# Altium footprint library libSiemens.PcbLib: 4 footprints
Each footprint in its own frame and in the unit in brackets; x right, y up, seen from the top. Pads: shape width x height; smd on the part's side, far side on the other; paste and mask are expansions set on the pad; w line width, h text height; cw(c..) or ccw(c..) is an arc to the next point about the centre after c.
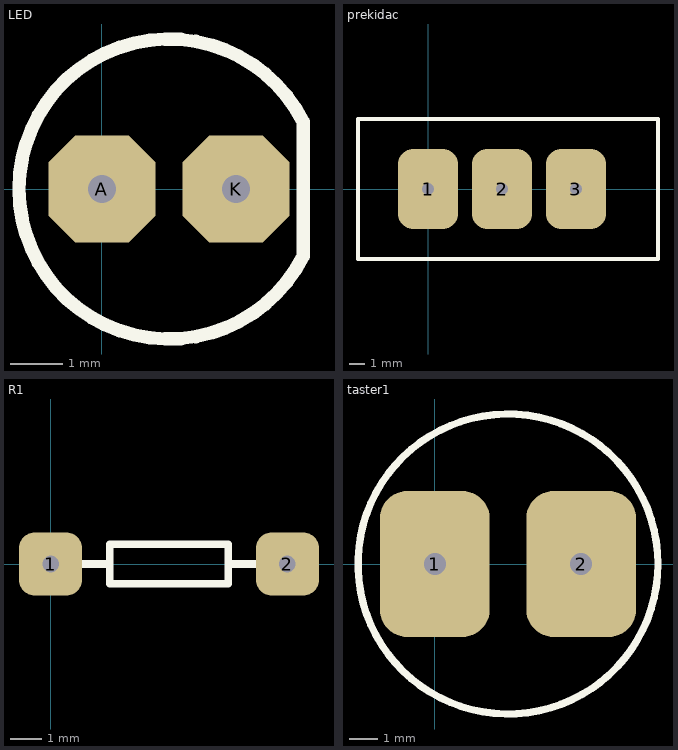
[diagram p0: the footprints below, top view; thin cyan lines are the x and y axes]

## LED [mil]
pads (2):
  oct 80x80 hole 21: A(0,0) K(100,0)
Top Overlay:
  lines w10: 150,-50 cw(c50,0) 150,50 150,-50

## prekidac [mil]
pads (3):
  rrect50% 150x200 hole 30: 1(0,0) 2(185,0) 3(370,0)
Top Overlay:
  lines w10: -175,-175 -175,175 575,175 575,-175 -175,-175

## R1 [mil]
pads (2):
  rrect50% 80x80 hole 21: 1(0,0) 2(300,0)
Top Overlay:
  lines w10: 0,0 75,0 ; 225,0 300,0 ; 75,-25 75,25 225,25 225,-25 75,-25

## taster1 [mil]
pads (2):
  rrect50% 150x200 hole 30: 1(0,0) 2(200,0)
Top Overlay:
  circle w10: c100,0 r205